# Altium integrated library BLM21PG600SN1D.IntLib: 1 symbol
Pins are listed as number, name and electrical type; pins without a type are passive.

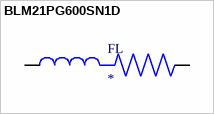
[diagram p0: symbol BLM21PG600SN1D]

## BLM21PG600SN1D
designator FL
60 Ohms @ 100MHz 1 Power Line Ferrite Bead 0805 _2012 Metric_ 3.5A 20mOhm; MF: Murata; MP: BLM21PG600SN1D; SnapEDA_Link: https://www.snapeda.com/parts/BLM21PG600SN1D/Murata/view-part/234786/?ref=snap; Package: 2012 Murata; Digi-Key_Purchase_URL: https://www.digikey.com/product-detail/en/murata-electronics/BLM21PG600SN1D/490-1053-1-ND/584500?utm_source=snapeda&utm_medium=aggregator&utm_campaign=symbol; Value: *; Digi-Key_Part_Number: 490-1053-1-ND
footprint BEADC2012X105N
pins: 1, 2